# EAGLE library part PMP4201Y (library transistors-npn)
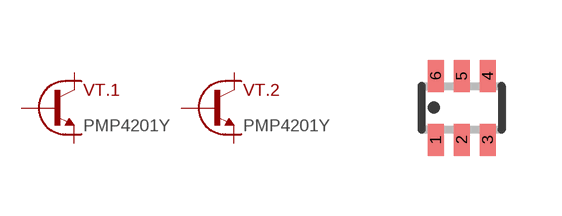
[diagram p0: symbol with the pads of SOT363_PHILIPS; footprint SOT363_PHILIPS]

Designator prefix VT; gates .1=NPN-HALF .2=NPN-HALF

## PMP4201Y  [SOT363_PHILIPS]
1  .1:B  pas
2  .2:B  pas
3  .2:C  pas
4  .2:E  pas
5  .1:E  pas
6  .1:C  pas

## Footprint SOT363_PHILIPS (pad centres in mm)
Small Outline Transistor; 6 leads Philips Semiconductors, SOT363.pdf
smd 0.4 x 0.8: 1 -0.65,-0.8; 2 0,-0.8; 3 0.65,-0.8; 4 0.65,0.8; 5 0,0.8; 6 -0.65,0.8